# EAGLE library part DF13-7 (library Custom_Library)
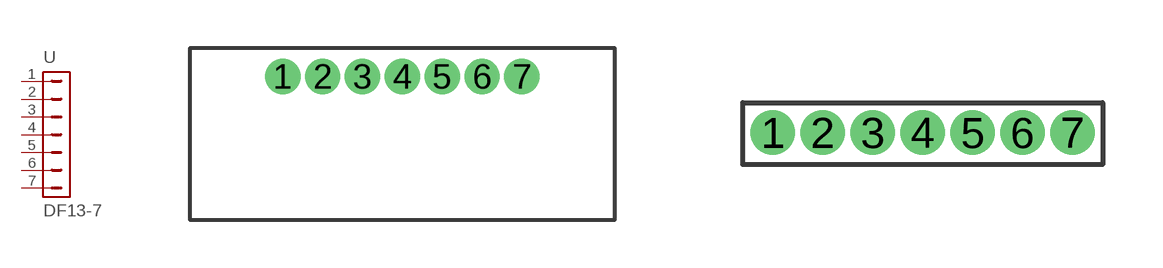
[diagram p14: symbol with the pads of DF13-7; footprints DF13-7, DF13-7_THIN]

Designator prefix -

## DF13-7  [DF13-7]
1  1  pas
2  2  pas
3  3  pas
4  4  pas
5  5  pas
6  6  pas
7  7  pas

## DF13-7THIN  [DF13-7_THIN]
Pads as for DF13-7

## Footprint DF13-7 (pad centres in mm)
drill 0.6 pad 1.016: 1 -3.7,1.65; 2 -2.45,1.65; 3 -1.2,1.65; 4 0.05,1.65; 5 1.3,1.65; 6 2.55,1.65; 7 3.8,1.65

## Footprint DF13-7_THIN (pad centres in mm)
drill 0.6 pad 1.016: 1 -3.7,0.38; 2 -2.45,0.38; 3 -1.2,0.38; 4 0.05,0.38; 5 1.3,0.38; 6 2.55,0.38; 7 3.8,0.38